# EAGLE library part CP2120 (library ic-Silicon)
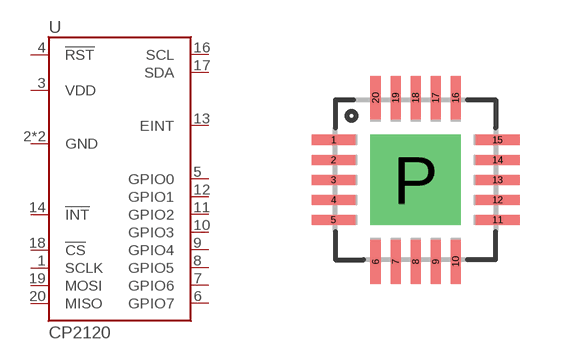
[diagram p3: symbol with the pads of QFN20-0.5; footprint QFN20-0.5]

Designator prefix U

## CP2120  [QFN20-0.5]
1  SCLK
2  GND
3  VDD
4  !RST
5  GPIO0
6  GPIO7
7  GPIO6
8  GPIO5
9  GPIO4
10  GPIO3
11  GPIO2
12  GPIO1
13  EINT
14  !INT
16  SCL
17  SDA
18  !CS
19  MOSI
20  MISO
P  GND

## Footprint QFN20-0.5 (pad centres in mm)
smd 1.1 x 0.25: 1 -2.05,1; 2 -2.05,0.5; 3 -2.05,0; 4 -2.05,-0.5; 5 -2.05,-1; 11 2.05,-1; 12 2.05,-0.5; 13 2.05,0; 14 2.05,0.5; 15 2.05,1
smd 0.25 x 1.1: 6 -1,-2.05; 7 -0.5,-2.05; 8 0,-2.05; 9 0.5,-2.05; 10 1,-2.05; 16 1,2.05; 17 0.5,2.05; 18 0,2.05; 19 -0.5,2.05; 20 -1,2.05
drill 1.5 pad 2.2 square: P 0,0